# Altium schematic symbol library MSK12C02.SchLib: 1 symbol
Pins are listed as number, name and electrical type; pins without a type are passive.

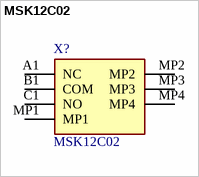
[diagram p0: symbol MSK12C02]

## MSK12C02
designator X?
SMD Toggle Switches; Manufacturer_Name: Shou Han; Geometry.Height: 1.4mm; Manufacturer_Part_Number: MSK12C02; Mouser Part Number: *; Mouser Price/Stock: *; Arrow Part Number: *; Arrow Price/Stock: *; Datasheet Link: https://shouhan.en.made-in-china.com/product/xsMEmqgOAXWB/China-Slide-Switch-Msk12c02-Slide-Switch-on-off-2-Position-1p2t-Spdt-Miniature-Horizontal-SMD-7p-Slide-Switch.html
footprint MSK12C02
pins: A1 NC, B1 COM, C1 NO, MP1, MP2, MP3, MP4